# Altium integrated library Xilinx Spartan-3A FPGA.IntLib: 452 symbols (part 2 of 3)
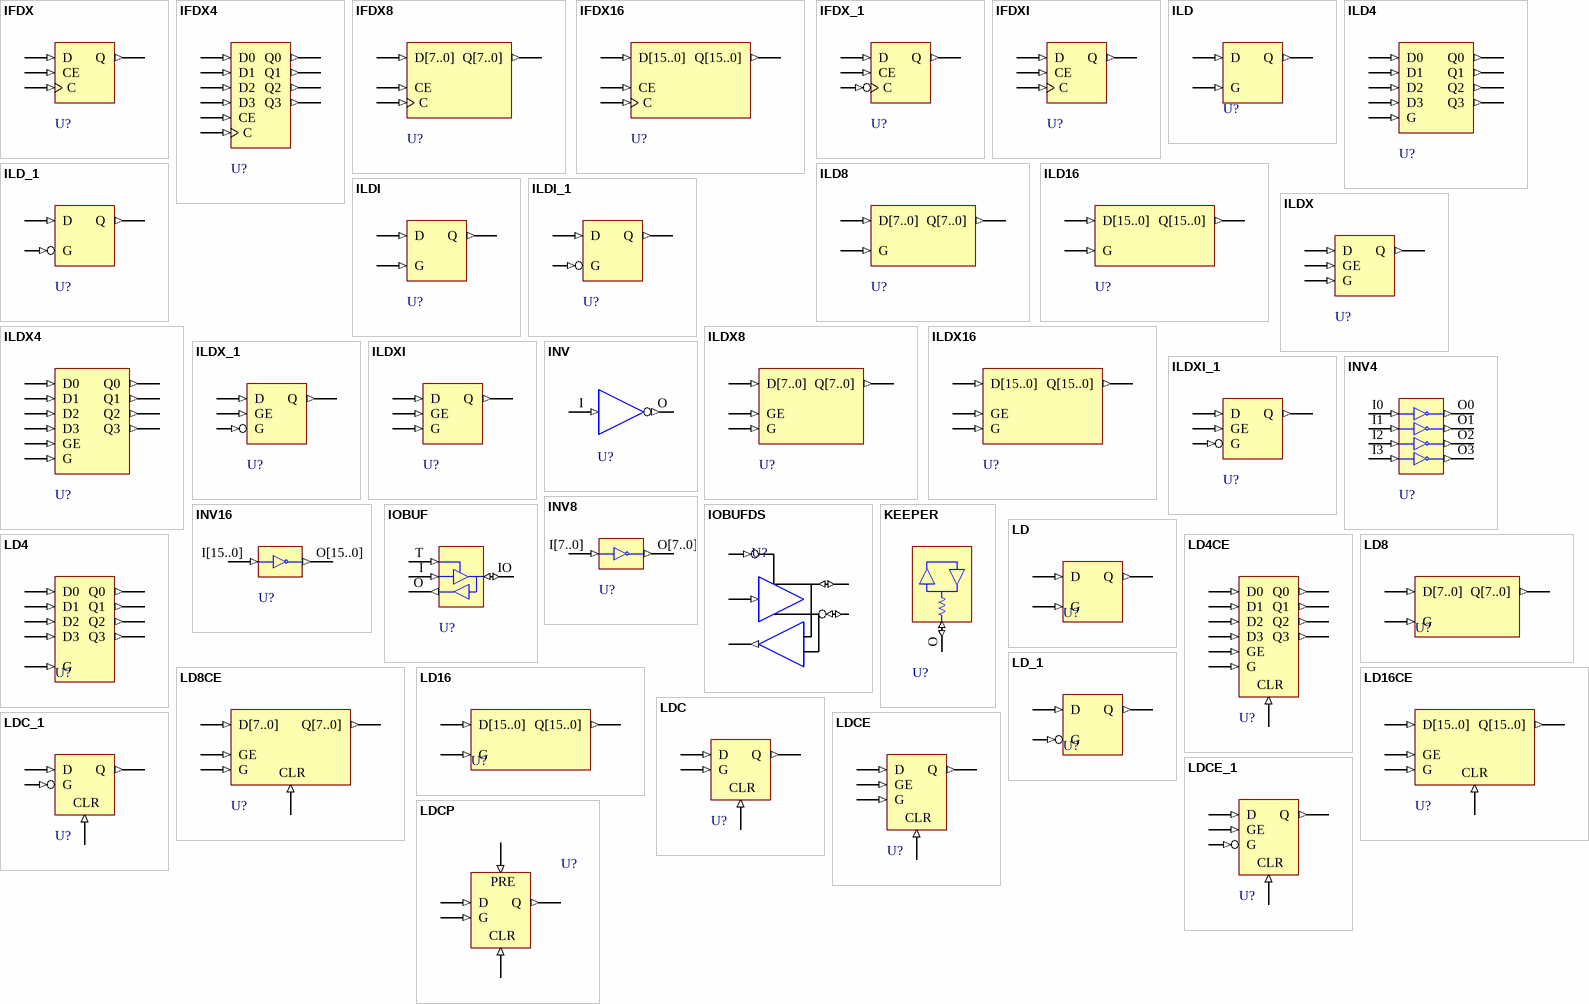
[diagram p12: symbols IFDX to LDCP]

## ILD4
designator U?
Transparent Input Data Latch; FPGAVendor: Xilinx; Published: 12-Jan-2007; Publisher: Altium Limited; HelpURL: http://toolbox.xilinx.com/docsan/xilinx82/books/docs/s3asc/s3asc.pdf
pins: D0 (in), D1 (in), D2 (in), D3 (in), G (in), Q0 (out), Q1 (out), Q2 (out), Q3 (out)

## ILD8
designator U?
Transparent Input Data Latch; FPGAVendor: Xilinx; Published: 12-Jan-2007; Publisher: Altium Limited; HelpURL: http://toolbox.xilinx.com/docsan/xilinx82/books/docs/s3asc/s3asc.pdf
pins: D[7..0] (in), G (in), Q[7..0] (out)

## ILD16
designator U?
Transparent Input Data Latch; FPGAVendor: Xilinx; Published: 12-Jan-2007; Publisher: Altium Limited; HelpURL: http://toolbox.xilinx.com/docsan/xilinx82/books/docs/s3asc/s3asc.pdf
pins: D[15..0] (in), G (in), Q[15..0] (out)

## ILD_1
designator U?
Transparent Input Data Latch with Inverted Gate; FPGAVendor: Xilinx; Published: 12-Jan-2007; Publisher: Altium Limited; HelpURL: http://toolbox.xilinx.com/docsan/xilinx82/books/docs/s3asc/s3asc.pdf
pins: D (in), G (in), Q (out)

## ILDI
designator U?
Transparent Input Data Latch (Asynchronous Preset); FPGAVendor: Xilinx; Published: 12-Jan-2007; Publisher: Altium Limited; HelpURL: http://toolbox.xilinx.com/docsan/xilinx82/books/docs/s3asc/s3asc.pdf
pins: D (in), G (in), Q (out)

## ILDI_1
designator U?
Transparent Input Data Latch with Inverted Gate (Asynchronous Preset); FPGAVendor: Xilinx; Published: 12-Jan-2007; Publisher: Altium Limited; HelpURL: http://toolbox.xilinx.com/docsan/xilinx82/books/docs/s3asc/s3asc.pdf
pins: D (in), G (in), Q (out)

## ILDX
designator U?
Transparent Input Data Latch; FPGAVendor: Xilinx; Published: 12-Jan-2007; Publisher: Altium Limited; HelpURL: http://toolbox.xilinx.com/docsan/xilinx82/books/docs/s3asc/s3asc.pdf
pins: D (in), G (in), GE (in), Q (out)

## ILDX4
designator U?
Transparent Input Data Latch; FPGAVendor: Xilinx; Published: 12-Jan-2007; Publisher: Altium Limited; HelpURL: http://toolbox.xilinx.com/docsan/xilinx82/books/docs/s3asc/s3asc.pdf
pins: D0 (in), D1 (in), D2 (in), D3 (in), G (in), GE (in), Q0 (out), Q1 (out), Q2 (out), Q3 (out)

## ILDX8
designator U?
Transparent Input Data Latch; FPGAVendor: Xilinx; Published: 12-Jan-2007; Publisher: Altium Limited; HelpURL: http://toolbox.xilinx.com/docsan/xilinx82/books/docs/s3asc/s3asc.pdf
pins: D[7..0] (in), G (in), GE (in), Q[7..0] (out)

## ILDX16
designator U?
Transparent Input Data Latch; FPGAVendor: Xilinx; Published: 12-Jan-2007; Publisher: Altium Limited; HelpURL: http://toolbox.xilinx.com/docsan/xilinx82/books/docs/s3asc/s3asc.pdf
pins: D[15..0] (in), G (in), GE (in), Q[15..0] (out)

## ILDX_1
designator U?
Transparent Input Data Latch with Inverted Gate; FPGAVendor: Xilinx; Published: 12-Jan-2007; Publisher: Altium Limited; HelpURL: http://toolbox.xilinx.com/docsan/xilinx82/books/docs/s3asc/s3asc.pdf
pins: D (in), G (in), GE (in), Q (out)

## ILDXI
designator U?
Transparent Input Data Latch (Asynchronous Preset); FPGAVendor: Xilinx; Published: 12-Jan-2007; Publisher: Altium Limited; HelpURL: http://toolbox.xilinx.com/docsan/xilinx82/books/docs/s3asc/s3asc.pdf
pins: D (in), G (in), GE (in), Q (out)

## ILDXI_1
designator U?
Transparent Input Data Latch with Inverted Gate (Asynchronous Preset); FPGAVendor: Xilinx; Published: 12-Jan-2007; Publisher: Altium Limited; HelpURL: http://toolbox.xilinx.com/docsan/xilinx82/books/docs/s3asc/s3asc.pdf
pins: D (in), G (in), GE (in), Q (out)

## INV
designator U?
Inverter; FPGAVendor: Xilinx; Published: 12-Jan-2007; Publisher: Altium Limited; HelpURL: http://toolbox.xilinx.com/docsan/xilinx82/books/docs/s3asc/s3asc.pdf
pins: I (in), O (out)

## INV4
designator U?
4 x Inverters; FPGAVendor: Xilinx; Published: 12-Jan-2007; Publisher: Altium Limited; HelpURL: http://toolbox.xilinx.com/docsan/xilinx82/books/docs/s3asc/s3asc.pdf
pins: I0 (in), I1 (in), I2 (in), I3 (in), O0 (out), O1 (out), O2 (out), O3 (out)

## INV8
designator U?
8 x Inverters; FPGAVendor: Xilinx; Published: 12-Jan-2007; Publisher: Altium Limited; HelpURL: http://toolbox.xilinx.com/docsan/xilinx82/books/docs/s3asc/s3asc.pdf
pins: I[7..0] (in), O[7..0] (out)

## INV16
designator U?
16 x Inverters; FPGAVendor: Xilinx; Published: 12-Jan-2007; Publisher: Altium Limited; HelpURL: http://toolbox.xilinx.com/docsan/xilinx82/books/docs/s3asc/s3asc.pdf
pins: I[15..0] (in), O[15..0] (out)

## IOBUF
designator U?
Bi-Directional Buffer using the LVTTL standard; FPGAVendor: Xilinx; Published: 12-Jan-2007; Publisher: Altium Limited; HelpURL: http://toolbox.xilinx.com/docsan/xilinx82/books/docs/s3asc/s3asc.pdf
pins: I (in), IO (io), O (out), T (in)

## IOBUFDS
designator U?
3-State Differential Signaling I/O Buffer with Active Low Output Enable; FPGAVendor: Xilinx; Published: 12-Jan-2007; Publisher: Altium Limited; HelpURL: http://toolbox.xilinx.com/docsan/xilinx82/books/docs/s3asc/s3asc.pdf
pins: I (in), IO (io), IOB (io), O (out), T (in)

## KEEPER
designator U?
KEEPER Symbol; FPGAVendor: Xilinx; Published: 12-Jan-2007; Publisher: Altium Limited; HelpURL: http://toolbox.xilinx.com/docsan/xilinx82/books/docs/s3asc/s3asc.pdf
pins: O (io)

## LD
designator U?
Transparent Data Latch; FPGAVendor: Xilinx; Published: 12-Jan-2007; Publisher: Altium Limited; HelpURL: http://toolbox.xilinx.com/docsan/xilinx82/books/docs/s3asc/s3asc.pdf
pins: D (in), G (in), Q (out)

## LD4
designator U?
Multiple Transparent Data Latches; FPGAVendor: Xilinx; Published: 12-Jan-2007; Publisher: Altium Limited; HelpURL: http://toolbox.xilinx.com/docsan/xilinx82/books/docs/s3asc/s3asc.pdf
pins: D0 (in), D1 (in), D2 (in), D3 (in), G (in), Q0 (out), Q1 (out), Q2 (out), Q3 (out)

## LD4CE
designator U?
Transparent Data Latch with Asynchronous Clear and Gate Enable; FPGAVendor: Xilinx; Published: 12-Jan-2007; Publisher: Altium Limited; HelpURL: http://toolbox.xilinx.com/docsan/xilinx82/books/docs/s3asc/s3asc.pdf
pins: CLR (in), D0 (in), D1 (in), D2 (in), D3 (in), G (in), GE (in), Q0 (out), Q1 (out), Q2 (out), Q3 (out)

## LD8
designator U?
Multiple Transparent Data Latches; FPGAVendor: Xilinx; Published: 12-Jan-2007; Publisher: Altium Limited; HelpURL: http://toolbox.xilinx.com/docsan/xilinx82/books/docs/s3asc/s3asc.pdf
pins: D[7..0] (in), G (in), Q[7..0] (out)

## LD8CE
designator U?
Transparent Data Latch with Asynchronous Clear and Gate Enable; FPGAVendor: Xilinx; Published: 12-Jan-2007; Publisher: Altium Limited; HelpURL: http://toolbox.xilinx.com/docsan/xilinx82/books/docs/s3asc/s3asc.pdf
pins: CLR (in), D[7..0] (in), G (in), GE (in), Q[7..0] (out)

## LD16
designator U?
Multiple Transparent Data Latches; FPGAVendor: Xilinx; Published: 12-Jan-2007; Publisher: Altium Limited; HelpURL: http://toolbox.xilinx.com/docsan/xilinx82/books/docs/s3asc/s3asc.pdf
pins: D[15..0] (in), G (in), Q[15..0] (out)

## LD16CE
designator U?
Transparent Data Latch with Asynchronous Clear and Gate Enable; FPGAVendor: Xilinx; Published: 12-Jan-2007; Publisher: Altium Limited; HelpURL: http://toolbox.xilinx.com/docsan/xilinx82/books/docs/s3asc/s3asc.pdf
pins: CLR (in), D[15..0] (in), G (in), GE (in), Q[15..0] (out)

## LD_1
designator U?
Transparent Data Latch with Inverted Gate; FPGAVendor: Xilinx; Published: 12-Jan-2007; Publisher: Altium Limited; HelpURL: http://toolbox.xilinx.com/docsan/xilinx82/books/docs/s3asc/s3asc.pdf
pins: D (in), G (in), Q (out)

## LDC
designator U?
Transparent Data Latch with Asynchronous Clear; FPGAVendor: Xilinx; Published: 12-Jan-2007; Publisher: Altium Limited; HelpURL: http://toolbox.xilinx.com/docsan/xilinx82/books/docs/s3asc/s3asc.pdf
pins: CLR (in), D (in), G (in), Q (out)

## LDC_1
designator U?
Transparent Data Latch with Asynchronous Clear and Inverted Gate; FPGAVendor: Xilinx; Published: 12-Jan-2007; Publisher: Altium Limited; HelpURL: http://toolbox.xilinx.com/docsan/xilinx82/books/docs/s3asc/s3asc.pdf
pins: CLR (in), D (in), G (in), Q (out)

## LDCE
designator U?
Transparent Data Latch wth Asynchronous Clear and Gate Enable; FPGAVendor: Xilinx; Published: 12-Jan-2007; Publisher: Altium Limited; HelpURL: http://toolbox.xilinx.com/docsan/xilinx82/books/docs/s3asc/s3asc.pdf
pins: CLR (in), D (in), G (in), GE (in), Q (out)

## LDCE_1
designator U?
Transparent Data Latch with Asynchronous Clear, Gate Enable,  and Inverted Gate; FPGAVendor: Xilinx; Published: 12-Jan-2007; Publisher: Altium Limited; HelpURL: http://toolbox.xilinx.com/docsan/xilinx82/books/docs/s3asc/s3asc.pdf
pins: CLR (in), D (in), G (in), GE (in), Q (out)

## LDCP
designator U?
Transparent Data Latch with Asynchronous Clear and Preset; FPGAVendor: Xilinx; Published: 12-Jan-2007; Publisher: Altium Limited; HelpURL: http://toolbox.xilinx.com/docsan/xilinx82/books/docs/s3asc/s3asc.pdf
pins: CLR (in), D (in), G (in), PRE (in), Q (out)

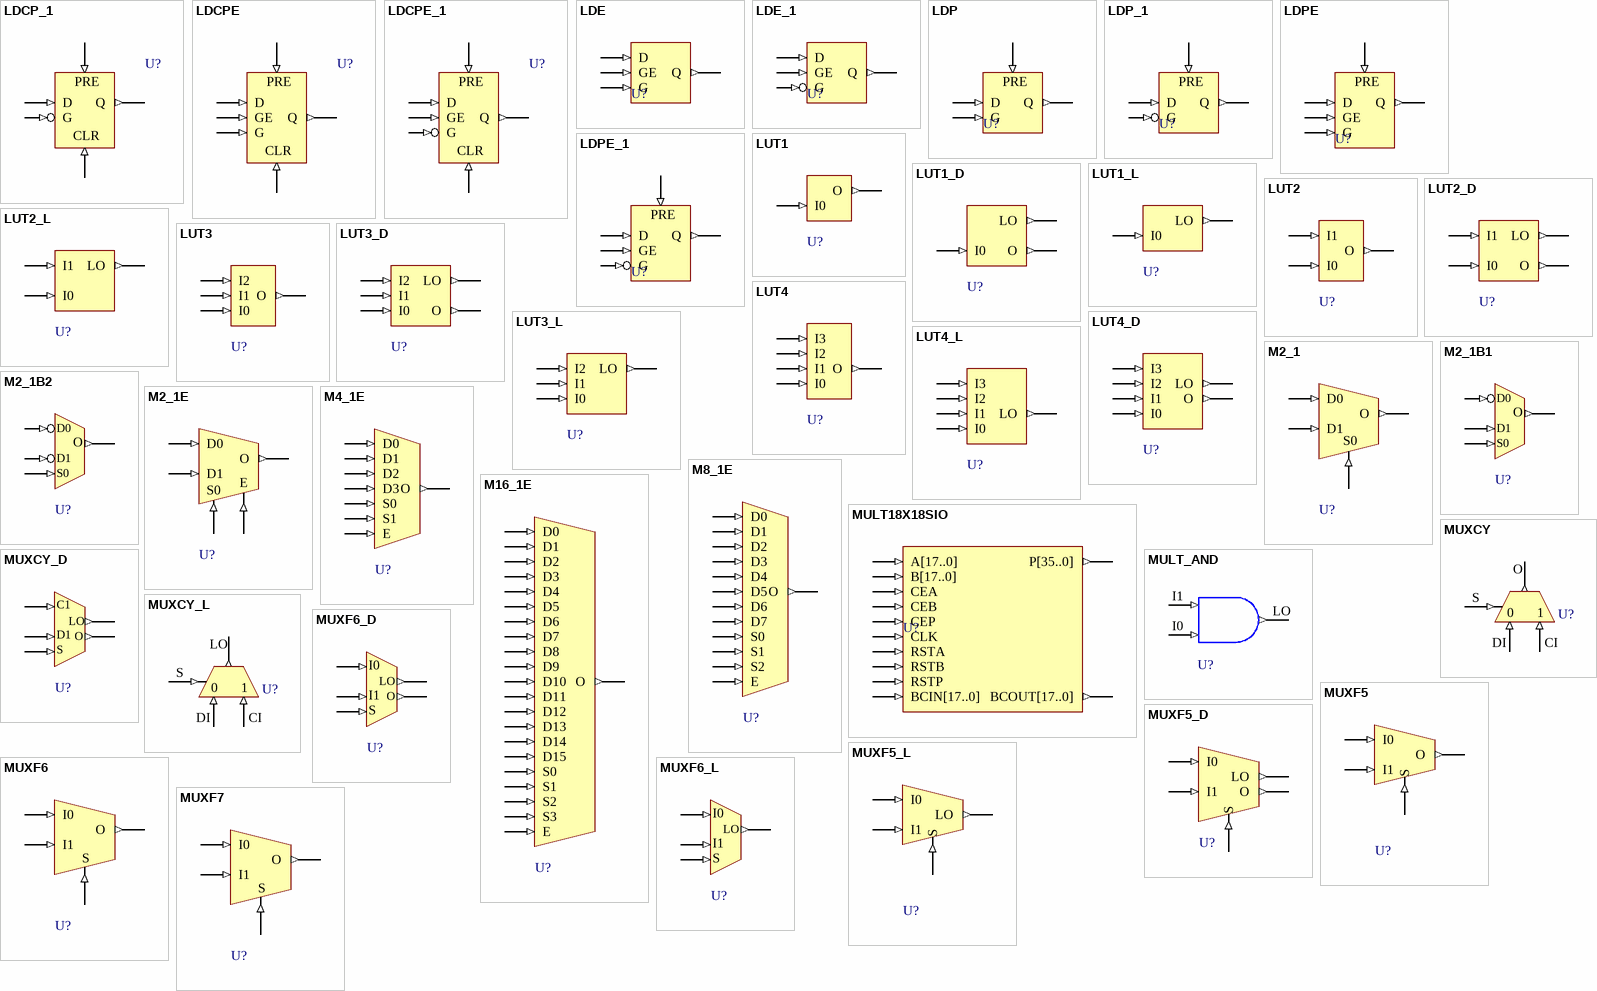
[diagram p5: symbols LDCP_1 to MUXF7]

## LDCP_1
designator U?
Transparent Data Latch with Asynchronous Clear and Preset and Inverted Gate; FPGAVendor: Xilinx; Published: 12-Jan-2007; Publisher: Altium Limited; HelpURL: http://toolbox.xilinx.com/docsan/xilinx82/books/docs/s3asc/s3asc.pdf
pins: CLR (in), D (in), G (in), PRE (in), Q (out)

## LDCPE
designator U?
Transparent Data Latch with Asynchronous Clear and Preset and Gate Enable; FPGAVendor: Xilinx; Published: 12-Jan-2007; Publisher: Altium Limited; HelpURL: http://toolbox.xilinx.com/docsan/xilinx82/books/docs/s3asc/s3asc.pdf
pins: CLR (in), D (in), G (in), GE (in), PRE (in), Q (out)

## LDCPE_1
designator U?
Transparent Data Latch with Asynchronous Clear and Preset, Gate Enable, and Inverted Gate; FPGAVendor: Xilinx; Published: 12-Jan-2007; Publisher: Altium Limited; HelpURL: http://toolbox.xilinx.com/docsan/xilinx82/books/docs/s3asc/s3asc.pdf
pins: CLR (in), D (in), G (in), GE (in), PRE (in), Q (out)

## LDE
designator U?
Transparent Data Latch with Gate Enable; FPGAVendor: Xilinx; Published: 12-Jan-2007; Publisher: Altium Limited; HelpURL: http://toolbox.xilinx.com/docsan/xilinx82/books/docs/s3asc/s3asc.pdf
pins: D (in), G (in), GE (in), Q (out)

## LDE_1
designator U?
Transparent Data Latch with Gate Enable and Inverted Gate; FPGAVendor: Xilinx; Published: 12-Jan-2007; Publisher: Altium Limited; HelpURL: http://toolbox.xilinx.com/docsan/xilinx82/books/docs/s3asc/s3asc.pdf
pins: D (in), G (in), GE (in), Q (out)

## LDP
designator U?
Transparent Data Latch with Asynchronous Preset; FPGAVendor: Xilinx; Published: 12-Jan-2007; Publisher: Altium Limited; HelpURL: http://toolbox.xilinx.com/docsan/xilinx82/books/docs/s3asc/s3asc.pdf
pins: D (in), G (in), PRE (in), Q (out)

## LDP_1
designator U?
Transparent Data Latch with Asynchronous Preset and Inverted Gate; FPGAVendor: Xilinx; Published: 12-Jan-2007; Publisher: Altium Limited; HelpURL: http://toolbox.xilinx.com/docsan/xilinx82/books/docs/s3asc/s3asc.pdf
pins: D (in), G (in), PRE (in), Q (out)

## LDPE
designator U?
Transparent Data Latch with Asynchronous Preset and Gate Enable; FPGAVendor: Xilinx; Published: 12-Jan-2007; Publisher: Altium Limited; HelpURL: http://toolbox.xilinx.com/docsan/xilinx82/books/docs/s3asc/s3asc.pdf
pins: D (in), G (in), GE (in), PRE (in), Q (out)

## LDPE_1
designator U?
Transparent Data Latch with Asynchronous Preset, Gate Enable, and Inverted Gate; FPGAVendor: Xilinx; Published: 12-Jan-2007; Publisher: Altium Limited; HelpURL: http://toolbox.xilinx.com/docsan/xilinx82/books/docs/s3asc/s3asc.pdf
pins: D (in), G (in), GE (in), PRE (in), Q (out)

## LUT1
designator U?
1-Bit Look-Up-Table with General Output; FPGAVendor: Xilinx; Published: 12-Jan-2007; Publisher: Altium Limited; HelpURL: http://toolbox.xilinx.com/docsan/xilinx82/books/docs/s3asc/s3asc.pdf
pins: I0 (in), O (out)

## LUT1_D
designator U?
1-Bit Look-Up-Table with Dual Output; FPGAVendor: Xilinx; Published: 12-Jan-2007; Publisher: Altium Limited; HelpURL: http://toolbox.xilinx.com/docsan/xilinx82/books/docs/s3asc/s3asc.pdf
pins: I0 (in), LO (out), O (out)

## LUT1_L
designator U?
1-Bit Look-Up-Table with Local Output; FPGAVendor: Xilinx; Published: 12-Jan-2007; Publisher: Altium Limited; HelpURL: http://toolbox.xilinx.com/docsan/xilinx82/books/docs/s3asc/s3asc.pdf
pins: I0 (in), LO (out)

## LUT2
designator U?
2-Bit Look-Up-Table with General Output; FPGAVendor: Xilinx; Published: 12-Jan-2007; Publisher: Altium Limited; HelpURL: http://toolbox.xilinx.com/docsan/xilinx82/books/docs/s3asc/s3asc.pdf
pins: I0 (in), I1 (in), O (out)

## LUT2_D
designator U?
2-Bit Look-Up-Table with Dual Output; FPGAVendor: Xilinx; Published: 12-Jan-2007; Publisher: Altium Limited; HelpURL: http://toolbox.xilinx.com/docsan/xilinx82/books/docs/s3asc/s3asc.pdf
pins: I0 (in), I1 (in), LO (out), O (out)

## LUT2_L
designator U?
2-Bit Look-Up-Table with Local Output; FPGAVendor: Xilinx; Published: 12-Jan-2007; Publisher: Altium Limited; HelpURL: http://toolbox.xilinx.com/docsan/xilinx82/books/docs/s3asc/s3asc.pdf
pins: I0 (in), I1 (in), LO (out)

## LUT3
designator U?
3-Bit Look-Up-Table with General Output; FPGAVendor: Xilinx; Published: 12-Jan-2007; Publisher: Altium Limited; HelpURL: http://toolbox.xilinx.com/docsan/xilinx82/books/docs/s3asc/s3asc.pdf
pins: I0 (in), I1 (in), I2 (in), O (out)

## LUT3_D
designator U?
3-Bit Look-Up-Table with Dual Output; FPGAVendor: Xilinx; Published: 12-Jan-2007; Publisher: Altium Limited; HelpURL: http://toolbox.xilinx.com/docsan/xilinx82/books/docs/s3asc/s3asc.pdf
pins: I0 (in), I1 (in), I2 (in), LO (out), O (out)

## LUT3_L
designator U?
3-Bit Look-Up-Table with Local Output; FPGAVendor: Xilinx; Published: 12-Jan-2007; Publisher: Altium Limited; HelpURL: http://toolbox.xilinx.com/docsan/xilinx82/books/docs/s3asc/s3asc.pdf
pins: I0 (in), I1 (in), I2 (in), LO (out)

## LUT4
designator U?
4-Bit Look-Up-Table with General Output; FPGAVendor: Xilinx; Published: 12-Jan-2007; Publisher: Altium Limited; HelpURL: http://toolbox.xilinx.com/docsan/xilinx82/books/docs/s3asc/s3asc.pdf
pins: I0 (in), I1 (in), I2 (in), I3 (in), O (out)

## LUT4_D
designator U?
4-Bit Look-Up-Table with Dual Output; FPGAVendor: Xilinx; Published: 12-Jan-2007; Publisher: Altium Limited; HelpURL: http://toolbox.xilinx.com/docsan/xilinx82/books/docs/s3asc/s3asc.pdf
pins: I0 (in), I1 (in), I2 (in), I3 (in), LO (out), O (out)

## LUT4_L
designator U?
4-Bit Look-Up-Table with Local Output; FPGAVendor: Xilinx; Published: 12-Jan-2007; Publisher: Altium Limited; HelpURL: http://toolbox.xilinx.com/docsan/xilinx82/books/docs/s3asc/s3asc.pdf
pins: I0 (in), I1 (in), I2 (in), I3 (in), LO (out)

## M2_1
designator U?
2-to-1 Multiplexer; FPGAVendor: Xilinx; Published: 12-Jan-2007; Publisher: Altium Limited; HelpURL: http://toolbox.xilinx.com/docsan/xilinx82/books/docs/s3asc/s3asc.pdf
pins: D0 (in), D1 (in), O (out), S0 (in)

## M2_1B1
designator U?
2-to-1 Multiplexer with D0 Inverted; FPGAVendor: Xilinx; Published: 12-Jan-2007; Publisher: Altium Limited; HelpURL: http://toolbox.xilinx.com/docsan/xilinx82/books/docs/s3asc/s3asc.pdf
pins: D0 (in), D1 (in), O (out), S0 (in)

## M2_1B2
designator U?
2-to-1 Multiplexer with D0 and D1 Inverted; FPGAVendor: Xilinx; Published: 12-Jan-2007; Publisher: Altium Limited; HelpURL: http://toolbox.xilinx.com/docsan/xilinx82/books/docs/s3asc/s3asc.pdf
pins: D0 (in), D1 (in), O (out), S0 (in)

## M2_1E
designator U?
2-to-1 Multiplexer with Enable; FPGAVendor: Xilinx; Published: 12-Jan-2007; Publisher: Altium Limited; HelpURL: http://toolbox.xilinx.com/docsan/xilinx82/books/docs/s3asc/s3asc.pdf
pins: D0 (in), D1 (in), E (in), O (out), S0 (in)

## M4_1E
designator U?
4-to-1 Multiplexer with Enable; FPGAVendor: Xilinx; Published: 12-Jan-2007; Publisher: Altium Limited; HelpURL: http://toolbox.xilinx.com/docsan/xilinx82/books/docs/s3asc/s3asc.pdf
pins: D0 (in), D1 (in), D2 (in), D3 (in), E (in), O (out), S0 (in), S1 (in)

## M8_1E
designator U?
8-to-1 Multiplexer with Enable; FPGAVendor: Xilinx; Published: 12-Jan-2007; Publisher: Altium Limited; HelpURL: http://toolbox.xilinx.com/docsan/xilinx82/books/docs/s3asc/s3asc.pdf
pins: D0 (in), D1 (in), D2 (in), D3 (in), D4 (in), D5 (in), D6 (in), D7 (in), E (in), O (out), S0 (in), S1 (in), S2 (in)

## M16_1E
designator U?
16-to-1 Multiplexer with Enable; FPGAVendor: Xilinx; Published: 12-Jan-2007; Publisher: Altium Limited; HelpURL: http://toolbox.xilinx.com/docsan/xilinx82/books/docs/s3asc/s3asc.pdf
pins: D0 (in), D1 (in), D2 (in), D3 (in), D4 (in), D5 (in), D6 (in), D7 (in), D8 (in), D9 (in), D10 (in), D11 (in), D12 (in), D13 (in), D14 (in), D15 (in), E (in), O (out), S0 (in), S1 (in), S2 (in), S3 (in)

## MULT18X18SIO
designator U?
18x18 Cascadable Signed Multiplier with Optional Input and Output registers, Clock Enable, and Synchronous Reset; FPGAVendor: Xilinx; Published: 12-Jan-2007; Publisher: Altium Limited; HelpURL: http://toolbox.xilinx.com/docsan/xilinx82/books/docs/s3asc/s3asc.pdf
pins: A[17..0] (in), B[17..0] (in), BCIN[17..0] (in), BCOUT[17..0] (out), CEA (in), CEB (in), CEP (in), CLK (in), P[35..0] (out), RSTA (in), RSTB (in), RSTP (in)

## MULT_AND
designator U?
Fast Multiplier AND; FPGAVendor: Xilinx; Published: 12-Jan-2007; Publisher: Altium Limited; HelpURL: http://toolbox.xilinx.com/docsan/xilinx82/books/docs/s3asc/s3asc.pdf
pins: I0 (in), I1 (in), LO (out)

## MUXCY
designator U?
2-to-1 Multiplexer for Carry Logic with General Output; FPGAVendor: Xilinx; Published: 12-Jan-2007; Publisher: Altium Limited; HelpURL: http://toolbox.xilinx.com/docsan/xilinx82/books/docs/s3asc/s3asc.pdf
pins: CI (in), DI (in), O (out), S (in)
text: 0; 1

## MUXCY_D
designator U?
2-to-1 Multiplexer for Carry Logic with Dual Output; FPGAVendor: Xilinx; Published: 12-Jan-2007; Publisher: Altium Limited; HelpURL: http://toolbox.xilinx.com/docsan/xilinx82/books/docs/s3asc/s3asc.pdf
pins: CI (in), DI (in), LO (out), O (out), S (in)
text: C1; D1

## MUXCY_L
designator U?
2-to-1 Multiplexer for Carry Logic with Local Output; FPGAVendor: Xilinx; Published: 12-Jan-2007; Publisher: Altium Limited; HelpURL: http://toolbox.xilinx.com/docsan/xilinx82/books/docs/s3asc/s3asc.pdf
pins: CI (in), DI (in), LO (out), S (in)
text: 0; 1

## MUXF5
designator U?
2-to-1 Lookup Table Multiplexer with General Output; FPGAVendor: Xilinx; Published: 12-Jan-2007; Publisher: Altium Limited; HelpURL: http://toolbox.xilinx.com/docsan/xilinx82/books/docs/s3asc/s3asc.pdf
pins: I0 (in), I1 (in), O (out), S (in)

## MUXF5_D
designator U?
2-to-1 Lookup Table Multiplexer with Dual Output; FPGAVendor: Xilinx; Published: 12-Jan-2007; Publisher: Altium Limited; HelpURL: http://toolbox.xilinx.com/docsan/xilinx82/books/docs/s3asc/s3asc.pdf
pins: I0 (in), I1 (in), LO (out), O (out), S (in)

## MUXF5_L
designator U?
2-to-1 Lookup Table Multiplexer with Local Output; FPGAVendor: Xilinx; Published: 12-Jan-2007; Publisher: Altium Limited; HelpURL: http://toolbox.xilinx.com/docsan/xilinx82/books/docs/s3asc/s3asc.pdf
pins: I0 (in), I1 (in), LO (out), S (in)

## MUXF6
designator U?
2-to-1 Lookup Table Multiplexer with General Output; FPGAVendor: Xilinx; Published: 12-Jan-2007; Publisher: Altium Limited; HelpURL: http://toolbox.xilinx.com/docsan/xilinx82/books/docs/s3asc/s3asc.pdf
pins: I0 (in), I1 (in), O (out), S (in)

## MUXF6_D
designator U?
2-to-1 Lookup Table Multiplexer with Dual Output; FPGAVendor: Xilinx; Published: 12-Jan-2007; Publisher: Altium Limited; HelpURL: http://toolbox.xilinx.com/docsan/xilinx82/books/docs/s3asc/s3asc.pdf
pins: I0 (in), I1 (in), LO (out), O (out), S (in)

## MUXF6_L
designator U?
2-to-1 Lookup Table Multiplexer with Local Output; FPGAVendor: Xilinx; Published: 12-Jan-2007; Publisher: Altium Limited; HelpURL: http://toolbox.xilinx.com/docsan/xilinx82/books/docs/s3asc/s3asc.pdf
pins: I0 (in), I1 (in), LO (out), S (in)

## MUXF7
designator U?
2-to-1 Lookup Table Multiplexer with General Output; FPGAVendor: Xilinx; Published: 12-Jan-2007; Publisher: Altium Limited; HelpURL: http://toolbox.xilinx.com/docsan/xilinx82/books/docs/s3asc/s3asc.pdf
pins: I0 (in), I1 (in), O (out), S (in)

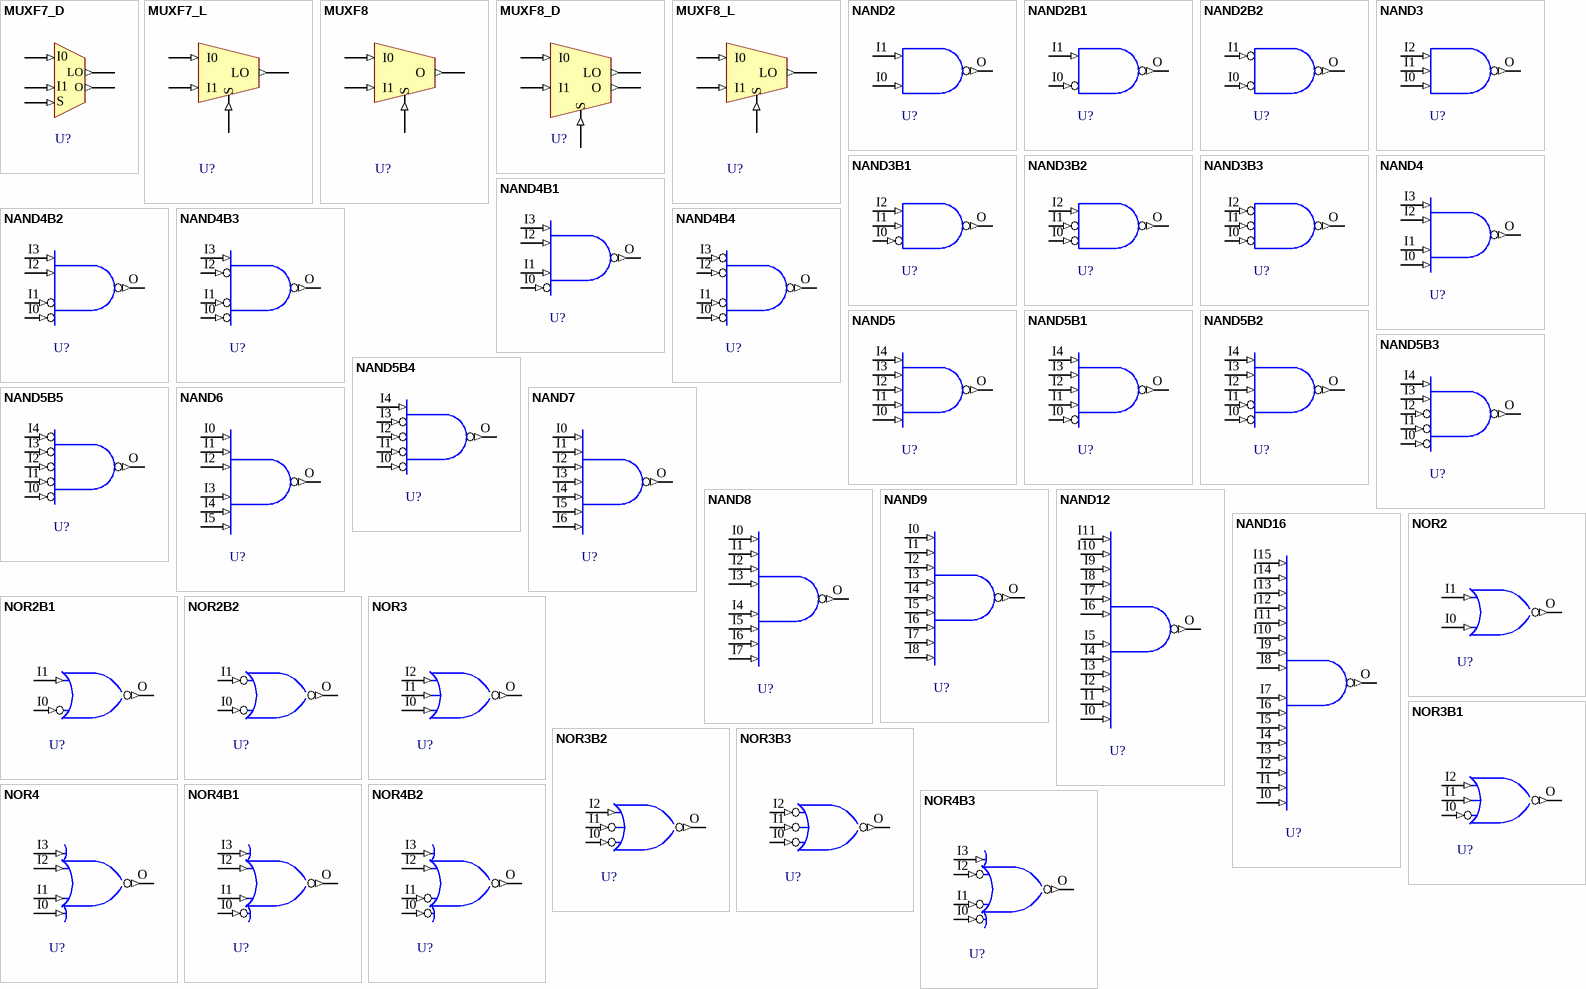
[diagram p6: symbols MUXF7_D to NOR4B3]

## MUXF7_D
designator U?
2-to-1 Lookup Table Multiplexer with General Output; FPGAVendor: Xilinx; Published: 12-Jan-2007; Publisher: Altium Limited; HelpURL: http://toolbox.xilinx.com/docsan/xilinx82/books/docs/s3asc/s3asc.pdf
pins: I0 (in), I1 (in), LO (out), O (out), S (in)

## MUXF7_L
designator U?
2-to-1 Lookup Table Multiplexer with Local Output; FPGAVendor: Xilinx; Published: 12-Jan-2007; Publisher: Altium Limited; HelpURL: http://toolbox.xilinx.com/docsan/xilinx82/books/docs/s3asc/s3asc.pdf
pins: I0 (in), I1 (in), LO (out), S (in)

## MUXF8
designator U?
2-to-1 Lookup Table Multiplexer with General Output; FPGAVendor: Xilinx; Published: 12-Jan-2007; Publisher: Altium Limited; HelpURL: http://toolbox.xilinx.com/docsan/xilinx82/books/docs/s3asc/s3asc.pdf
pins: I0 (in), I1 (in), O (out), S (in)

## MUXF8_D
designator U?
2-to-1 Lookup Table Multiplexer with Dual Output; FPGAVendor: Xilinx; Published: 12-Jan-2007; Publisher: Altium Limited; HelpURL: http://toolbox.xilinx.com/docsan/xilinx82/books/docs/s3asc/s3asc.pdf
pins: I0 (in), I1 (in), LO (out), O (out), S (in)

## MUXF8_L
designator U?
2-to-1 Lookup Table Multiplexer with Local Output; FPGAVendor: Xilinx; Published: 12-Jan-2007; Publisher: Altium Limited; HelpURL: http://toolbox.xilinx.com/docsan/xilinx82/books/docs/s3asc/s3asc.pdf
pins: I0 (in), I1 (in), LO (out), S (in)

## NAND2
designator U?
2-Input NAND Gate; FPGAVendor: Xilinx; Published: 12-Jan-2007; Publisher: Altium Limited; HelpURL: http://toolbox.xilinx.com/docsan/xilinx82/books/docs/s3asc/s3asc.pdf
pins: I0 (in), I1 (in), O (out)

## NAND2B1
designator U?
2-Input NAND Gate with One Inverted Input; FPGAVendor: Xilinx; Published: 12-Jan-2007; Publisher: Altium Limited; HelpURL: http://toolbox.xilinx.com/docsan/xilinx82/books/docs/s3asc/s3asc.pdf
pins: I0 (in), I1 (in), O (out)

## NAND2B2
designator U?
2-Input NAND Gate with Two Inverted Inputs; FPGAVendor: Xilinx; Published: 12-Jan-2007; Publisher: Altium Limited; HelpURL: http://toolbox.xilinx.com/docsan/xilinx82/books/docs/s3asc/s3asc.pdf
pins: I0 (in), I1 (in), O (out)

## NAND3
designator U?
3-Input NAND Gate; FPGAVendor: Xilinx; Published: 12-Jan-2007; Publisher: Altium Limited; HelpURL: http://toolbox.xilinx.com/docsan/xilinx82/books/docs/s3asc/s3asc.pdf
pins: I0 (in), I1 (in), I2 (in), O (out)

## NAND3B1
designator U?
3-Input NAND Gate with One Inverted Input; FPGAVendor: Xilinx; Published: 12-Jan-2007; Publisher: Altium Limited; HelpURL: http://toolbox.xilinx.com/docsan/xilinx82/books/docs/s3asc/s3asc.pdf
pins: I0 (in), I1 (in), I2 (in), O (out)

## NAND3B2
designator U?
3-Input NAND Gate with Two Inverted Inputs; FPGAVendor: Xilinx; Published: 12-Jan-2007; Publisher: Altium Limited; HelpURL: http://toolbox.xilinx.com/docsan/xilinx82/books/docs/s3asc/s3asc.pdf
pins: I0 (in), I1 (in), I2 (in), O (out)

## NAND3B3
designator U?
3-Input NAND Gate with Three Inverted Inputs; FPGAVendor: Xilinx; Published: 12-Jan-2007; Publisher: Altium Limited; HelpURL: http://toolbox.xilinx.com/docsan/xilinx82/books/docs/s3asc/s3asc.pdf
pins: I0 (in), I1 (in), I2 (in), O (out)

## NAND4
designator U?
4-Input NAND Gate; FPGAVendor: Xilinx; Published: 12-Jan-2007; Publisher: Altium Limited; HelpURL: http://toolbox.xilinx.com/docsan/xilinx82/books/docs/s3asc/s3asc.pdf
pins: I0 (in), I1 (in), I2 (in), I3 (in), O (out)

## NAND4B1
designator U?
4-Input NAND Gate with One Inverted Input; FPGAVendor: Xilinx; Published: 12-Jan-2007; Publisher: Altium Limited; HelpURL: http://toolbox.xilinx.com/docsan/xilinx82/books/docs/s3asc/s3asc.pdf
pins: I0 (in), I1 (in), I2 (in), I3 (in), O (out)

## NAND4B2
designator U?
4-Input NAND Gate with Two Inverted Inputs; FPGAVendor: Xilinx; Published: 12-Jan-2007; Publisher: Altium Limited; HelpURL: http://toolbox.xilinx.com/docsan/xilinx82/books/docs/s3asc/s3asc.pdf
pins: I0 (in), I1 (in), I2 (in), I3 (in), O (out)

## NAND4B3
designator U?
4-Input NAND Gate with Three Inverted Inputs; FPGAVendor: Xilinx; Published: 12-Jan-2007; Publisher: Altium Limited; HelpURL: http://toolbox.xilinx.com/docsan/xilinx82/books/docs/s3asc/s3asc.pdf
pins: I0 (in), I1 (in), I2 (in), I3 (in), O (out)

## NAND4B4
designator U?
4-Input NAND Gate with Four Inverted Inputs; FPGAVendor: Xilinx; Published: 12-Jan-2007; Publisher: Altium Limited; HelpURL: http://toolbox.xilinx.com/docsan/xilinx82/books/docs/s3asc/s3asc.pdf
pins: I0 (in), I1 (in), I2 (in), I3 (in), O (out)

## NAND5
designator U?
5-Input NAND Gate; FPGAVendor: Xilinx; Published: 12-Jan-2007; Publisher: Altium Limited; HelpURL: http://toolbox.xilinx.com/docsan/xilinx82/books/docs/s3asc/s3asc.pdf
pins: I0 (in), I1 (in), I2 (in), I3 (in), I4 (in), O (out)

## NAND5B1
designator U?
5-Input NAND Gate with One Inverted Input; FPGAVendor: Xilinx; Published: 12-Jan-2007; Publisher: Altium Limited; HelpURL: http://toolbox.xilinx.com/docsan/xilinx82/books/docs/s3asc/s3asc.pdf
pins: I0 (in), I1 (in), I2 (in), I3 (in), I4 (in), O (out)

## NAND5B2
designator U?
5-Input NAND Gate with Two Inverted Inputs; FPGAVendor: Xilinx; Published: 12-Jan-2007; Publisher: Altium Limited; HelpURL: http://toolbox.xilinx.com/docsan/xilinx82/books/docs/s3asc/s3asc.pdf
pins: I0 (in), I1 (in), I2 (in), I3 (in), I4 (in), O (out)

## NAND5B3
designator U?
5-Input NAND Gate with Three Inverted Inputs; FPGAVendor: Xilinx; Published: 12-Jan-2007; Publisher: Altium Limited; HelpURL: http://toolbox.xilinx.com/docsan/xilinx82/books/docs/s3asc/s3asc.pdf
pins: I0 (in), I1 (in), I2 (in), I3 (in), I4 (in), O (out)

## NAND5B4
designator U?
5-Input NAND Gate with Four Inverted Inputs; FPGAVendor: Xilinx; Published: 12-Jan-2007; Publisher: Altium Limited; HelpURL: http://toolbox.xilinx.com/docsan/xilinx82/books/docs/s3asc/s3asc.pdf
pins: I0 (in), I1 (in), I2 (in), I3 (in), I4 (in), O (out)

## NAND5B5
designator U?
5-Input NAND Gate with Five Inverted Inputs; FPGAVendor: Xilinx; Published: 12-Jan-2007; Publisher: Altium Limited; HelpURL: http://toolbox.xilinx.com/docsan/xilinx82/books/docs/s3asc/s3asc.pdf
pins: I0 (in), I1 (in), I2 (in), I3 (in), I4 (in), O (out)

## NAND6
designator U?
6-Input NAND Gate; FPGAVendor: Xilinx; Published: 12-Jan-2007; Publisher: Altium Limited; HelpURL: http://toolbox.xilinx.com/docsan/xilinx82/books/docs/s3asc/s3asc.pdf
pins: I0 (in), I1 (in), I2 (in), I3 (in), I4 (in), I5 (in), O (out)

## NAND7
designator U?
7-Input NAND Gate; FPGAVendor: Xilinx; Published: 12-Jan-2007; Publisher: Altium Limited; HelpURL: http://toolbox.xilinx.com/docsan/xilinx82/books/docs/s3asc/s3asc.pdf
pins: I0 (in), I1 (in), I2 (in), I3 (in), I4 (in), I5 (in), I6 (in), O (out)

## NAND8
designator U?
8-Input NAND Gate; FPGAVendor: Xilinx; Published: 12-Jan-2007; Publisher: Altium Limited; HelpURL: http://toolbox.xilinx.com/docsan/xilinx82/books/docs/s3asc/s3asc.pdf
pins: I0 (in), I1 (in), I2 (in), I3 (in), I4 (in), I5 (in), I6 (in), I7 (in), O (out)

## NAND9
designator U?
9-Input NAND Gate; FPGAVendor: Xilinx; Published: 12-Jan-2007; Publisher: Altium Limited; HelpURL: http://toolbox.xilinx.com/docsan/xilinx82/books/docs/s3asc/s3asc.pdf
pins: I0 (in), I1 (in), I2 (in), I3 (in), I4 (in), I5 (in), I6 (in), I7 (in), I8 (in), O (out)

## NAND12
designator U?
12-Input NAND Gate; FPGAVendor: Xilinx; Published: 12-Jan-2007; Publisher: Altium Limited; HelpURL: http://toolbox.xilinx.com/docsan/xilinx82/books/docs/s3asc/s3asc.pdf
pins: I0 (in), I1 (in), I2 (in), I3 (in), I4 (in), I5 (in), I6 (in), I7 (in), I8 (in), I9 (in), I10 (in), I11 (in), O (out)

## NAND16
designator U?
16-Input NAND Gate; FPGAVendor: Xilinx; Published: 12-Jan-2007; Publisher: Altium Limited; HelpURL: http://toolbox.xilinx.com/docsan/xilinx82/books/docs/s3asc/s3asc.pdf
pins: I0 (in), I1 (in), I2 (in), I3 (in), I4 (in), I5 (in), I6 (in), I7 (in), I8 (in), I9 (in), I10 (in), I11 (in), I12 (in), I13 (in), I14 (in), I15 (in), O (out)

## NOR2
designator U?
2-Input NOR Gate; FPGAVendor: Xilinx; Published: 12-Jan-2007; Publisher: Altium Limited; HelpURL: http://toolbox.xilinx.com/docsan/xilinx82/books/docs/s3asc/s3asc.pdf
pins: I0 (in), I1 (in), O (out)

## NOR2B1
designator U?
2-Input NOR Gate with One Inverted Input; FPGAVendor: Xilinx; Published: 12-Jan-2007; Publisher: Altium Limited; HelpURL: http://toolbox.xilinx.com/docsan/xilinx82/books/docs/s3asc/s3asc.pdf
pins: I0 (in), I1 (in), O (out)

## NOR2B2
designator U?
2-Input NOR Gate with Two Inverted Inputs; FPGAVendor: Xilinx; Published: 12-Jan-2007; Publisher: Altium Limited; HelpURL: http://toolbox.xilinx.com/docsan/xilinx82/books/docs/s3asc/s3asc.pdf
pins: I0 (in), I1 (in), O (out)

## NOR3
designator U?
3-Input NOR Gate; FPGAVendor: Xilinx; Published: 12-Jan-2007; Publisher: Altium Limited; HelpURL: http://toolbox.xilinx.com/docsan/xilinx82/books/docs/s3asc/s3asc.pdf
pins: I0 (in), I1 (in), I2 (in), O (out)

## NOR3B1
designator U?
3-Input NOR Gate with One Inverted Input; FPGAVendor: Xilinx; Published: 12-Jan-2007; Publisher: Altium Limited; HelpURL: http://toolbox.xilinx.com/docsan/xilinx82/books/docs/s3asc/s3asc.pdf
pins: I0 (in), I1 (in), I2 (in), O (out)

## NOR3B2
designator U?
3-Input NOR Gate with Two Inverted Inputs; FPGAVendor: Xilinx; Published: 12-Jan-2007; Publisher: Altium Limited; HelpURL: http://toolbox.xilinx.com/docsan/xilinx82/books/docs/s3asc/s3asc.pdf
pins: I0 (in), I1 (in), I2 (in), O (out)

## NOR3B3
designator U?
3-Input NOR Gate with Three Inverted Inputs; FPGAVendor: Xilinx; Published: 12-Jan-2007; Publisher: Altium Limited; HelpURL: http://toolbox.xilinx.com/docsan/xilinx82/books/docs/s3asc/s3asc.pdf
pins: I0 (in), I1 (in), I2 (in), O (out)

## NOR4
designator U?
4-Input NOR Gate; FPGAVendor: Xilinx; Published: 12-Jan-2007; Publisher: Altium Limited; HelpURL: http://toolbox.xilinx.com/docsan/xilinx82/books/docs/s3asc/s3asc.pdf
pins: I0 (in), I1 (in), I2 (in), I3 (in), O (out)

## NOR4B1
designator U?
4-Input NOR Gate with One Inverted Input; FPGAVendor: Xilinx; Published: 12-Jan-2007; Publisher: Altium Limited; HelpURL: http://toolbox.xilinx.com/docsan/xilinx82/books/docs/s3asc/s3asc.pdf
pins: I0 (in), I1 (in), I2 (in), I3 (in), O (out)

## NOR4B2
designator U?
4-Input NOR Gate with Two Inverted Inputs; FPGAVendor: Xilinx; Published: 12-Jan-2007; Publisher: Altium Limited; HelpURL: http://toolbox.xilinx.com/docsan/xilinx82/books/docs/s3asc/s3asc.pdf
pins: I0 (in), I1 (in), I2 (in), I3 (in), O (out)

## NOR4B3
designator U?
4-Input NOR Gate with Three Inverted Inputs; FPGAVendor: Xilinx; Published: 12-Jan-2007; Publisher: Altium Limited; HelpURL: http://toolbox.xilinx.com/docsan/xilinx82/books/docs/s3asc/s3asc.pdf
pins: I0 (in), I1 (in), I2 (in), I3 (in), O (out)

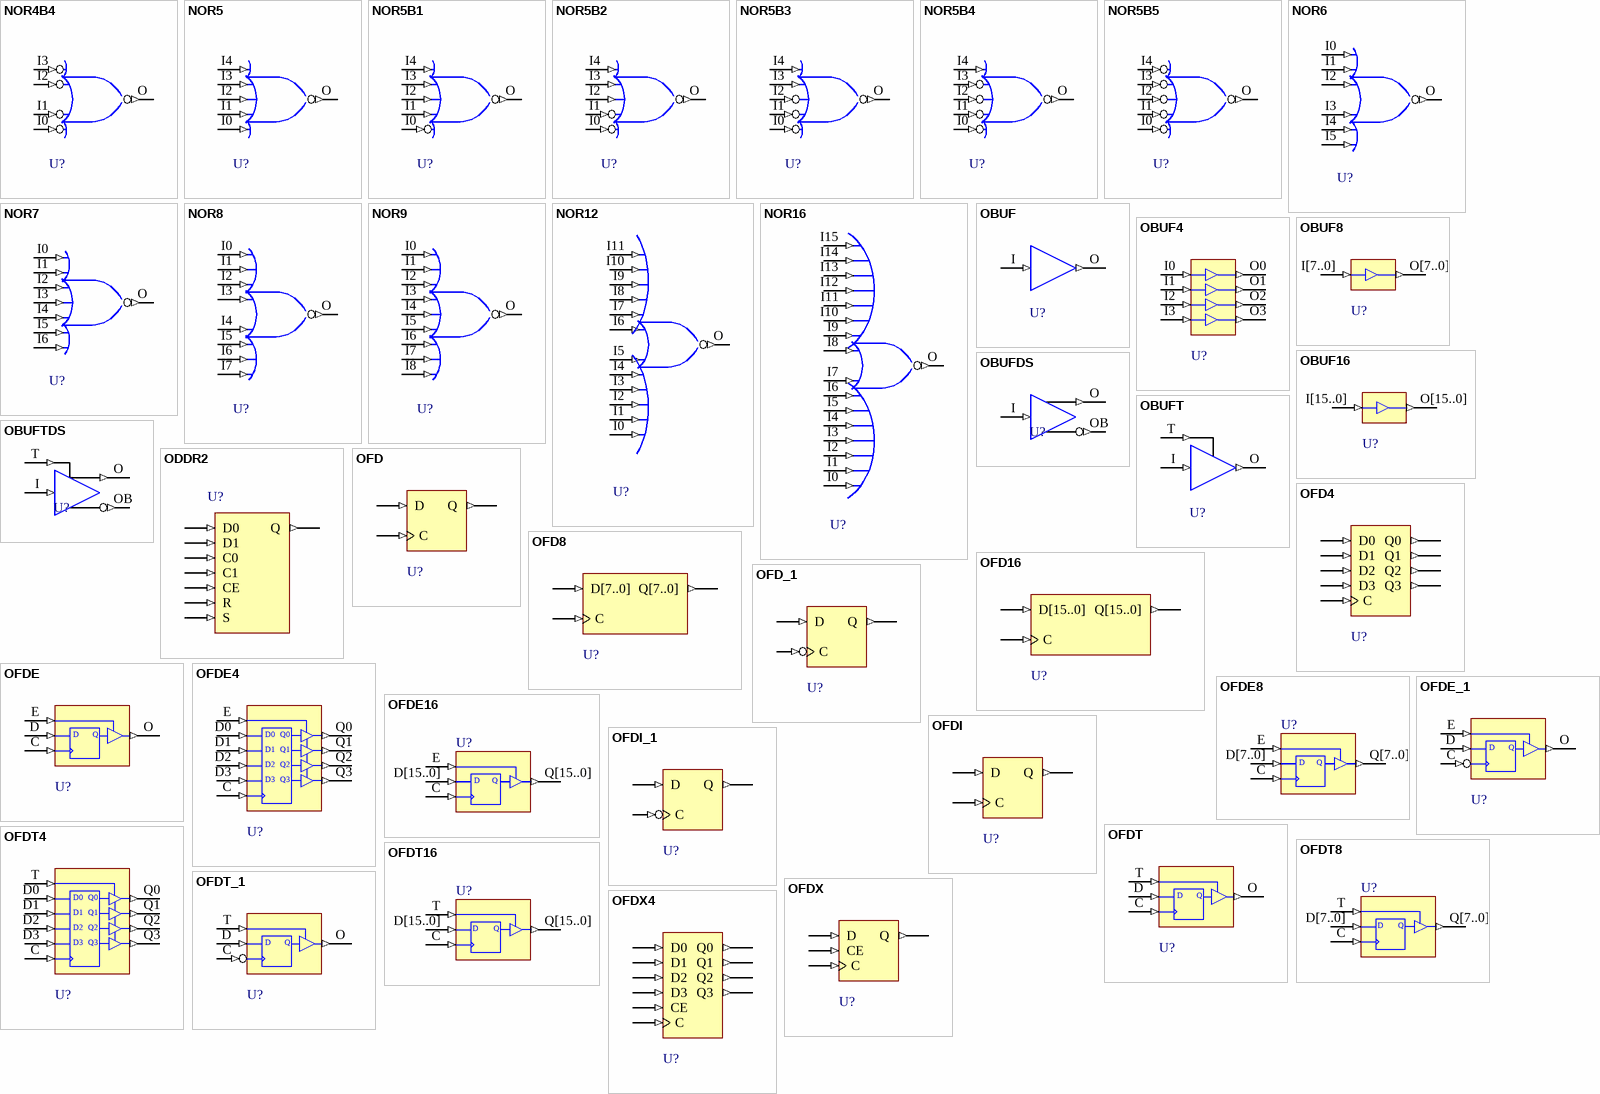
[diagram p7: symbols NOR4B4 to OFDX4]

## NOR4B4
designator U?
4-Input NOR Gate with Four Inverted Inputs; FPGAVendor: Xilinx; Published: 12-Jan-2007; Publisher: Altium Limited; HelpURL: http://toolbox.xilinx.com/docsan/xilinx82/books/docs/s3asc/s3asc.pdf
pins: I0 (in), I1 (in), I2 (in), I3 (in), O (out)

## NOR5
designator U?
5-Input NOR Gate; FPGAVendor: Xilinx; Published: 12-Jan-2007; Publisher: Altium Limited; HelpURL: http://toolbox.xilinx.com/docsan/xilinx82/books/docs/s3asc/s3asc.pdf
pins: I0 (in), I1 (in), I2 (in), I3 (in), I4 (in), O (out)

## NOR5B1
designator U?
5-Input NOR Gate with One Inverted Input; FPGAVendor: Xilinx; Published: 12-Jan-2007; Publisher: Altium Limited; HelpURL: http://toolbox.xilinx.com/docsan/xilinx82/books/docs/s3asc/s3asc.pdf
pins: I0 (in), I1 (in), I2 (in), I3 (in), I4 (in), O (out)

## NOR5B2
designator U?
5-Input NOR Gate with Two Inverted Inputs; FPGAVendor: Xilinx; Published: 12-Jan-2007; Publisher: Altium Limited; HelpURL: http://toolbox.xilinx.com/docsan/xilinx82/books/docs/s3asc/s3asc.pdf
pins: I0 (in), I1 (in), I2 (in), I3 (in), I4 (in), O (out)

## NOR5B3
designator U?
5-Input NOR Gate with Three Inverted Inputs; FPGAVendor: Xilinx; Published: 12-Jan-2007; Publisher: Altium Limited; HelpURL: http://toolbox.xilinx.com/docsan/xilinx82/books/docs/s3asc/s3asc.pdf
pins: I0 (in), I1 (in), I2 (in), I3 (in), I4 (in), O (out)

## NOR5B4
designator U?
5-Input NOR Gate with Four Inverted Inputs; FPGAVendor: Xilinx; Published: 12-Jan-2007; Publisher: Altium Limited; HelpURL: http://toolbox.xilinx.com/docsan/xilinx82/books/docs/s3asc/s3asc.pdf
pins: I0 (in), I1 (in), I2 (in), I3 (in), I4 (in), O (out)

## NOR5B5
designator U?
5-Input NOR Gate with Five Inverted Inputs; FPGAVendor: Xilinx; Published: 12-Jan-2007; Publisher: Altium Limited; HelpURL: http://toolbox.xilinx.com/docsan/xilinx82/books/docs/s3asc/s3asc.pdf
pins: I0 (in), I1 (in), I2 (in), I3 (in), I4 (in), O (out)

## NOR6
designator U?
6-Input NOR Gate; FPGAVendor: Xilinx; Published: 12-Jan-2007; Publisher: Altium Limited; HelpURL: http://toolbox.xilinx.com/docsan/xilinx82/books/docs/s3asc/s3asc.pdf
pins: I0 (in), I1 (in), I2 (in), I3 (in), I4 (in), I5 (in), O (out)

## NOR7
designator U?
7-Input NOR Gate; FPGAVendor: Xilinx; Published: 12-Jan-2007; Publisher: Altium Limited; HelpURL: http://toolbox.xilinx.com/docsan/xilinx82/books/docs/s3asc/s3asc.pdf
pins: I0 (in), I1 (in), I2 (in), I3 (in), I4 (in), I5 (in), I6 (in), O (out)

## NOR8
designator U?
8-Input NOR Gate; FPGAVendor: Xilinx; Published: 12-Jan-2007; Publisher: Altium Limited; HelpURL: http://toolbox.xilinx.com/docsan/xilinx82/books/docs/s3asc/s3asc.pdf
pins: I0 (in), I1 (in), I2 (in), I3 (in), I4 (in), I5 (in), I6 (in), I7 (in), O (out)

## NOR9
designator U?
9-Input NOR Gate; FPGAVendor: Xilinx; Published: 12-Jan-2007; Publisher: Altium Limited; HelpURL: http://toolbox.xilinx.com/docsan/xilinx82/books/docs/s3asc/s3asc.pdf
pins: I0 (in), I1 (in), I2 (in), I3 (in), I4 (in), I5 (in), I6 (in), I7 (in), I8 (in), O (out)

## NOR12
designator U?
12-Input NOR Gate; FPGAVendor: Xilinx; Published: 12-Jan-2007; Publisher: Altium Limited; HelpURL: http://toolbox.xilinx.com/docsan/xilinx82/books/docs/s3asc/s3asc.pdf
pins: I0 (in), I1 (in), I2 (in), I3 (in), I4 (in), I5 (in), I6 (in), I7 (in), I8 (in), I9 (in), I10 (in), I11 (in), O (out)

## NOR16
designator U?
16-Input NOR Gate; FPGAVendor: Xilinx; Published: 12-Jan-2007; Publisher: Altium Limited; HelpURL: http://toolbox.xilinx.com/docsan/xilinx82/books/docs/s3asc/s3asc.pdf
pins: I0 (in), I1 (in), I2 (in), I3 (in), I4 (in), I5 (in), I6 (in), I7 (in), I8 (in), I9 (in), I10 (in), I11 (in), I12 (in), I13 (in), I14 (in), I15 (in), O (out)

## OBUF
designator U?
Single-Output Buffer (using the LVTTL standard); FPGAVendor: Xilinx; Published: 12-Jan-2007; Publisher: Altium Limited; HelpURL: http://toolbox.xilinx.com/docsan/xilinx82/books/docs/s3asc/s3asc.pdf
pins: I (in), O (out)

## OBUF4
designator U?
Multiple-Output Buffers (using the LVTTL standard); FPGAVendor: Xilinx; Published: 12-Jan-2007; Publisher: Altium Limited; HelpURL: http://toolbox.xilinx.com/docsan/xilinx82/books/docs/s3asc/s3asc.pdf
pins: I0 (in), I1 (in), I2 (in), I3 (in), O0 (out), O1 (out), O2 (out), O3 (out)

## OBUF8
designator U?
Multiple-Output Buffers (using the LVTTL standard); FPGAVendor: Xilinx; Published: 12-Jan-2007; Publisher: Altium Limited; HelpURL: http://toolbox.xilinx.com/docsan/xilinx82/books/docs/s3asc/s3asc.pdf
pins: I[7..0] (in), O[7..0] (out)

## OBUF16
designator U?
Multiple-Output Buffers (using the LVTTL standard); FPGAVendor: Xilinx; Published: 12-Jan-2007; Publisher: Altium Limited; HelpURL: http://toolbox.xilinx.com/docsan/xilinx82/books/docs/s3asc/s3asc.pdf
pins: I[15..0] (in), O[15..0] (out)

## OBUFDS
designator U?
Differential Signaling Output Buffer with Selectable I/O Interface; FPGAVendor: Xilinx; Published: 12-Jan-2007; Publisher: Altium Limited; HelpURL: http://toolbox.xilinx.com/docsan/xilinx82/books/docs/s3asc/s3asc.pdf
pins: I (in), O (out), OB (out)

## OBUFT
designator U?
Single 3-State Output Buffer with Active-Low Output Enable; FPGAVendor: Xilinx; Published: 12-Jan-2007; Publisher: Altium Limited; HelpURL: http://toolbox.xilinx.com/docsan/xilinx82/books/docs/s3asc/s3asc.pdf
pins: I (in), O (out), T (in)

## OBUFTDS
designator U?
3-State Differential Signaling Output Buffer with Active Low Output Enable and Selectable I/O Interface; FPGAVendor: Xilinx; Published: 12-Jan-2007; Publisher: Altium Limited; HelpURL: http://toolbox.xilinx.com/docsan/xilinx82/books/docs/s3asc/s3asc.pdf
pins: I (in), O (out), OB (out), T (in)

## ODDR2
designator U?
Double Data Rate Output D Flip-Flop with Optional Data Alignment, Clock Enable and Programmable Synchronous or Asynchronous Set/Reset; FPGAVendor: Xilinx; Published: 12-Jan-2007; Publisher: Altium Limited; HelpURL: http://toolbox.xilinx.com/docsan/xilinx82/books/docs/s3asc/s3asc.pdf
pins: C0 (in), C1 (in), CE (in), D0 (in), D1 (in), Q (out), R (in), S (in)

## OFD
designator U?
Single-Output D Flip-Flop; FPGAVendor: Xilinx; Published: 12-Jan-2007; Publisher: Altium Limited; HelpURL: http://toolbox.xilinx.com/docsan/xilinx82/books/docs/s3asc/s3asc.pdf
pins: C (in), D (in), Q (out)

## OFD4
designator U?
Multiple-Output D Flip-Flop; FPGAVendor: Xilinx; Published: 12-Jan-2007; Publisher: Altium Limited; HelpURL: http://toolbox.xilinx.com/docsan/xilinx82/books/docs/s3asc/s3asc.pdf
pins: C (in), D0 (in), D1 (in), D2 (in), D3 (in), Q0 (out), Q1 (out), Q2 (out), Q3 (out)

## OFD8
designator U?
Multiple-Output D Flip-Flop; FPGAVendor: Xilinx; Published: 12-Jan-2007; Publisher: Altium Limited; HelpURL: http://toolbox.xilinx.com/docsan/xilinx82/books/docs/s3asc/s3asc.pdf
pins: C (in), D[7..0] (in), Q[7..0] (out)

## OFD16
designator U?
Multiple-Output D Flip-Flop; FPGAVendor: Xilinx; Published: 12-Jan-2007; Publisher: Altium Limited; HelpURL: http://toolbox.xilinx.com/docsan/xilinx82/books/docs/s3asc/s3asc.pdf
pins: C (in), D[15..0] (in), Q[15..0] (out)

## OFD_1
designator U?
Output D Flip-Flop with Inverted Clock; FPGAVendor: Xilinx; Published: 12-Jan-2007; Publisher: Altium Limited; HelpURL: http://toolbox.xilinx.com/docsan/xilinx82/books/docs/s3asc/s3asc.pdf
pins: C (in), D (in), Q (out)

## OFDE
designator U?
D Flip-Flop with Active-High Enable Output Buffer; FPGAVendor: Xilinx; Published: 12-Jan-2007; Publisher: Altium Limited; HelpURL: http://toolbox.xilinx.com/docsan/xilinx82/books/docs/s3asc/s3asc.pdf
pins: C (in), D (in), E (in), O (out)
text: Q

## OFDE4
designator U?
D Flip-Flops with Active-High Enable Output Buffers; FPGAVendor: Xilinx; Published: 12-Jan-2007; Publisher: Altium Limited; HelpURL: http://toolbox.xilinx.com/docsan/xilinx82/books/docs/s3asc/s3asc.pdf
pins: C (in), D0 (in), D1 (in), D2 (in), D3 (in), E (in), Q0 (out), Q1 (out), Q2 (out), Q3 (out)

## OFDE8
designator U?
D Flip-Flops with Active-High Enable Output Buffers; FPGAVendor: Xilinx; Published: 12-Jan-2007; Publisher: Altium Limited; HelpURL: http://toolbox.xilinx.com/docsan/xilinx82/books/docs/s3asc/s3asc.pdf
pins: C (in), D[7..0] (in), E (in), Q[7..0] (out)
text: D; Q

## OFDE16
designator U?
D Flip-Flops with Active-High Enable Output Buffers; FPGAVendor: Xilinx; Published: 12-Jan-2007; Publisher: Altium Limited; HelpURL: http://toolbox.xilinx.com/docsan/xilinx82/books/docs/s3asc/s3asc.pdf
pins: C (in), D[15..0] (in), E (in), Q[15..0] (out)
text: D; Q

## OFDE_1
designator U?
D Flip-Flop with Active-High Enable Output Buffer and Inverted Clock; FPGAVendor: Xilinx; Published: 12-Jan-2007; Publisher: Altium Limited; HelpURL: http://toolbox.xilinx.com/docsan/xilinx82/books/docs/s3asc/s3asc.pdf
pins: C (in), D (in), E (in), O (out)
text: Q

## OFDI
designator U?
Output D Flip-Flop (Asynchronous Preset); FPGAVendor: Xilinx; Published: 12-Jan-2007; Publisher: Altium Limited; HelpURL: http://toolbox.xilinx.com/docsan/xilinx82/books/docs/s3asc/s3asc.pdf
pins: C (in), D (in), Q (out)

## OFDI_1
designator U?
Output D Flip-Flop with Inverted Clock (Asynchronous Preset); FPGAVendor: Xilinx; Published: 12-Jan-2007; Publisher: Altium Limited; HelpURL: http://toolbox.xilinx.com/docsan/xilinx82/books/docs/s3asc/s3asc.pdf
pins: C (in), D (in), Q (out)

## OFDT
designator U?
Single D Flip-Flop with Active-Low 3-State Output Enable Buffer; FPGAVendor: Xilinx; Published: 12-Jan-2007; Publisher: Altium Limited; HelpURL: http://toolbox.xilinx.com/docsan/xilinx82/books/docs/s3asc/s3asc.pdf
pins: C (in), D (in), O (out), T (in)
text: Q

## OFDT4
designator U?
Multiple D Flip-Flops with Active-Low 3-State Output Enable Buffers; FPGAVendor: Xilinx; Published: 12-Jan-2007; Publisher: Altium Limited; HelpURL: http://toolbox.xilinx.com/docsan/xilinx82/books/docs/s3asc/s3asc.pdf
pins: C (in), D0 (in), D1 (in), D2 (in), D3 (in), Q0 (out), Q1 (out), Q2 (out), Q3 (out), T (in)

## OFDT8
designator U?
Multiple D Flip-Flops with Active-Low 3-State Output Enable Buffers; FPGAVendor: Xilinx; Published: 12-Jan-2007; Publisher: Altium Limited; HelpURL: http://toolbox.xilinx.com/docsan/xilinx82/books/docs/s3asc/s3asc.pdf
pins: C (in), D[7..0] (in), Q[7..0] (out), T (in)
text: D; Q

## OFDT16
designator U?
Multiple D Flip-Flops with Active-Low 3-State Output Enable Buffers; FPGAVendor: Xilinx; Published: 12-Jan-2007; Publisher: Altium Limited; HelpURL: http://toolbox.xilinx.com/docsan/xilinx82/books/docs/s3asc/s3asc.pdf
pins: C (in), D[15..0] (in), Q[15..0] (out), T (in)
text: D; Q

## OFDT_1
designator U?
D Flip-Flop with Active-Low 3-State Output Buffer and Inverted Clock; FPGAVendor: Xilinx; Published: 12-Jan-2007; Publisher: Altium Limited; HelpURL: http://toolbox.xilinx.com/docsan/xilinx82/books/docs/s3asc/s3asc.pdf
pins: C (in), D (in), O (out), T (in)
text: Q

## OFDX
designator U?
Single-Output D Flip-Flop with Clock Enable; FPGAVendor: Xilinx; Published: 12-Jan-2007; Publisher: Altium Limited; HelpURL: http://toolbox.xilinx.com/docsan/xilinx82/books/docs/s3asc/s3asc.pdf
pins: C (in), CE (in), D (in), Q (out)

## OFDX4
designator U?
Multiple-Output D Flip-Flops with Clock Enable; FPGAVendor: Xilinx; Published: 12-Jan-2007; Publisher: Altium Limited; HelpURL: http://toolbox.xilinx.com/docsan/xilinx82/books/docs/s3asc/s3asc.pdf
pins: C (in), CE (in), D0 (in), D1 (in), D2 (in), D3 (in), Q0 (out), Q1 (out), Q2 (out), Q3 (out)

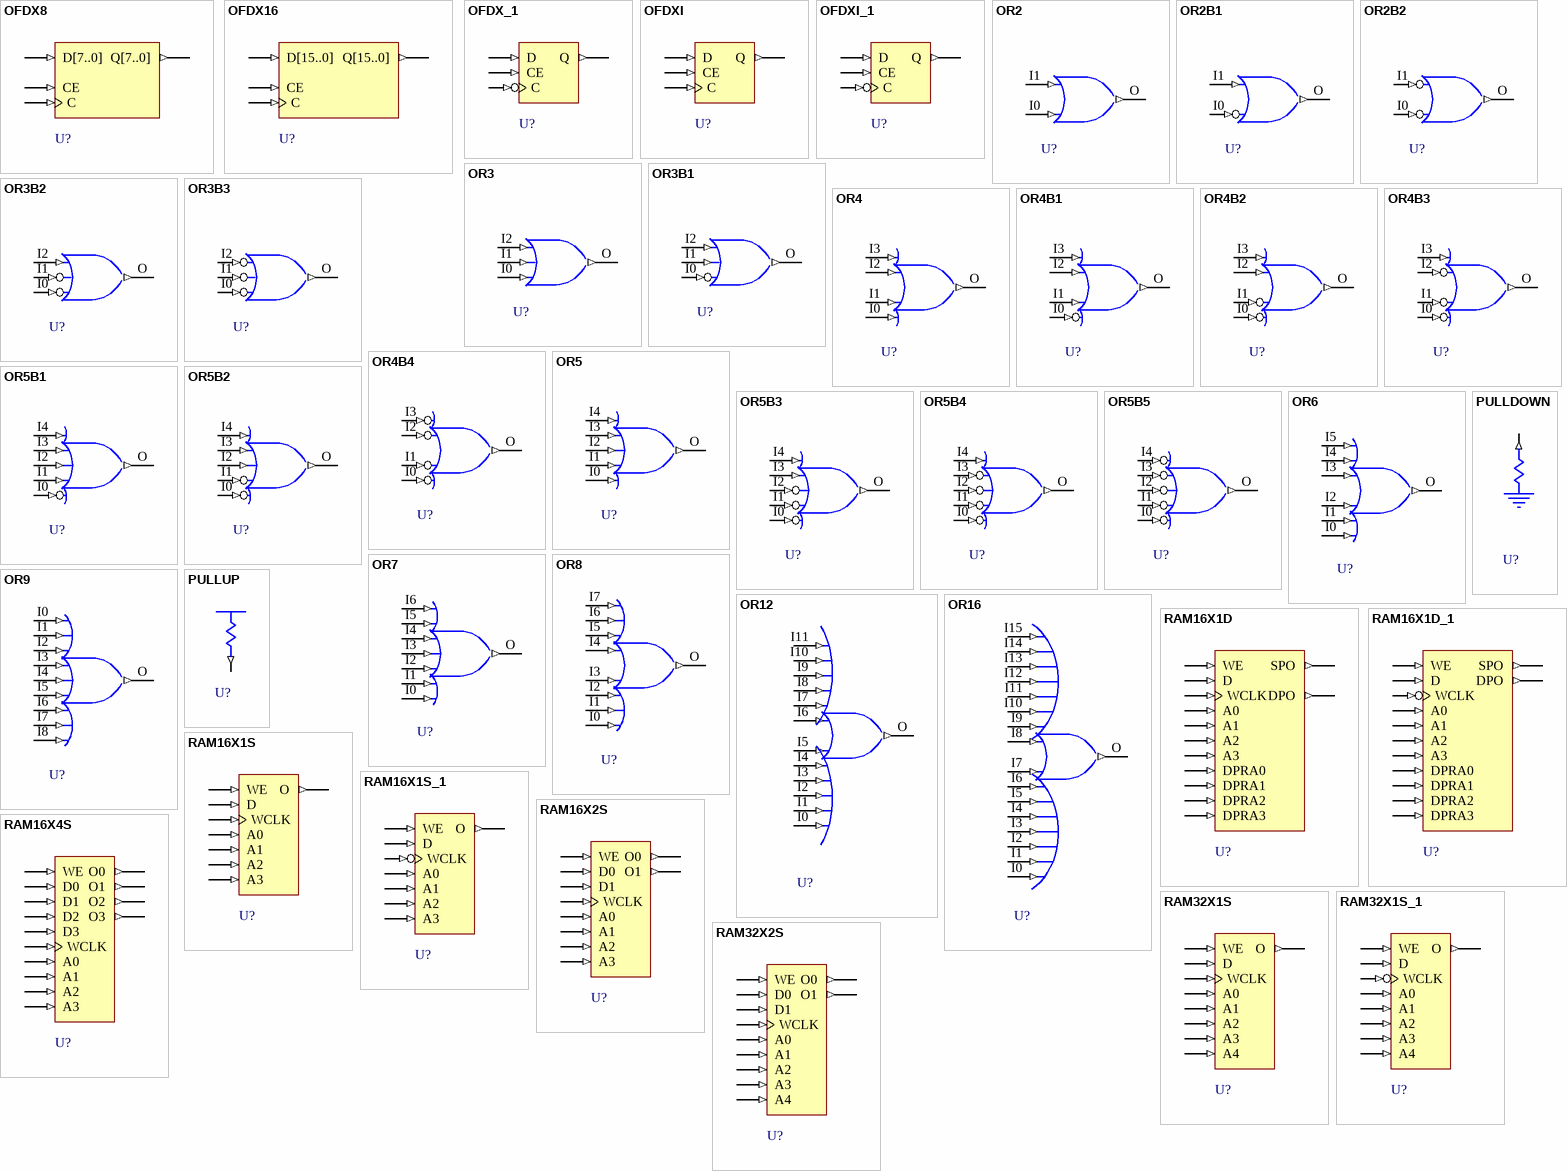
[diagram p8: symbols OFDX8 to RAM32X2S]

## OFDX8
designator U?
Multiple-Output D Flip-Flops with Clock Enable; FPGAVendor: Xilinx; Published: 12-Jan-2007; Publisher: Altium Limited; HelpURL: http://toolbox.xilinx.com/docsan/xilinx82/books/docs/s3asc/s3asc.pdf
pins: C (in), CE (in), D[7..0] (in), Q[7..0] (out)

## OFDX16
designator U?
Multiple-Output D Flip-Flops with Clock Enable; FPGAVendor: Xilinx; Published: 12-Jan-2007; Publisher: Altium Limited; HelpURL: http://toolbox.xilinx.com/docsan/xilinx82/books/docs/s3asc/s3asc.pdf
pins: C (in), CE (in), D[15..0] (in), Q[15..0] (out)

## OFDX_1
designator U?
Output D Flip-Flop with Inverted Clock and Clock Enable; FPGAVendor: Xilinx; Published: 12-Jan-2007; Publisher: Altium Limited; HelpURL: http://toolbox.xilinx.com/docsan/xilinx82/books/docs/s3asc/s3asc.pdf
pins: C (in), CE (in), D (in), Q (out)

## OFDXI
designator U?
Output D Flip-Flop with Clock Enable (Asynchronous Preset); FPGAVendor: Xilinx; Published: 12-Jan-2007; Publisher: Altium Limited; HelpURL: http://toolbox.xilinx.com/docsan/xilinx82/books/docs/s3asc/s3asc.pdf
pins: C (in), CE (in), D (in), Q (out)

## OFDXI_1
designator U?
Output D Flip-Flop with Inverted Clock and Clock Enable (Asynchronous Preset); FPGAVendor: Xilinx; Published: 12-Jan-2007; Publisher: Altium Limited; HelpURL: http://toolbox.xilinx.com/docsan/xilinx82/books/docs/s3asc/s3asc.pdf
pins: C (in), CE (in), D (in), Q (out)

## OR2
designator U?
2-Input OR Gate; FPGAVendor: Xilinx; Published: 12-Jan-2007; Publisher: Altium Limited; HelpURL: http://toolbox.xilinx.com/docsan/xilinx82/books/docs/s3asc/s3asc.pdf
pins: I0 (in), I1 (in), O (out)

## OR2B1
designator U?
2-Input OR Gate with One Inverted Input; FPGAVendor: Xilinx; Published: 12-Jan-2007; Publisher: Altium Limited; HelpURL: http://toolbox.xilinx.com/docsan/xilinx82/books/docs/s3asc/s3asc.pdf
pins: I0 (in), I1 (in), O (out)

## OR2B2
designator U?
2-Input OR Gate with Two Inverted Inputs; FPGAVendor: Xilinx; Published: 12-Jan-2007; Publisher: Altium Limited; HelpURL: http://toolbox.xilinx.com/docsan/xilinx82/books/docs/s3asc/s3asc.pdf
pins: I0 (in), I1 (in), O (out)

## OR3
designator U?
3-Input OR Gate; FPGAVendor: Xilinx; Published: 12-Jan-2007; Publisher: Altium Limited; HelpURL: http://toolbox.xilinx.com/docsan/xilinx82/books/docs/s3asc/s3asc.pdf
pins: I0 (in), I1 (in), I2 (in), O (out)

## OR3B1
designator U?
3-Input OR Gate with One Inverted Input; FPGAVendor: Xilinx; Published: 12-Jan-2007; Publisher: Altium Limited; HelpURL: http://toolbox.xilinx.com/docsan/xilinx82/books/docs/s3asc/s3asc.pdf
pins: I0 (in), I1 (in), I2 (in), O (out)

## OR3B2
designator U?
3-Input OR Gate with Two Inverted Inputs; FPGAVendor: Xilinx; Published: 12-Jan-2007; Publisher: Altium Limited; HelpURL: http://toolbox.xilinx.com/docsan/xilinx82/books/docs/s3asc/s3asc.pdf
pins: I0 (in), I1 (in), I2 (in), O (out)

## OR3B3
designator U?
3-Input OR Gate with Three Inverted Inputs; FPGAVendor: Xilinx; Published: 12-Jan-2007; Publisher: Altium Limited; HelpURL: http://toolbox.xilinx.com/docsan/xilinx82/books/docs/s3asc/s3asc.pdf
pins: I0 (in), I1 (in), I2 (in), O (out)

## OR4
designator U?
4-Input OR Gate; FPGAVendor: Xilinx; Published: 12-Jan-2007; Publisher: Altium Limited; HelpURL: http://toolbox.xilinx.com/docsan/xilinx82/books/docs/s3asc/s3asc.pdf
pins: I0 (in), I1 (in), I2 (in), I3 (in), O (out)

## OR4B1
designator U?
4-Input OR Gate with One Inverted Input; FPGAVendor: Xilinx; Published: 12-Jan-2007; Publisher: Altium Limited; HelpURL: http://toolbox.xilinx.com/docsan/xilinx82/books/docs/s3asc/s3asc.pdf
pins: I0 (in), I1 (in), I2 (in), I3 (in), O (out)

## OR4B2
designator U?
4-Input OR Gate with Two Inverted Inputs; FPGAVendor: Xilinx; Published: 12-Jan-2007; Publisher: Altium Limited; HelpURL: http://toolbox.xilinx.com/docsan/xilinx82/books/docs/s3asc/s3asc.pdf
pins: I0 (in), I1 (in), I2 (in), I3 (in), O (out)

## OR4B3
designator U?
4-Input OR Gate with Three Inverted Inputs; FPGAVendor: Xilinx; Published: 12-Jan-2007; Publisher: Altium Limited; HelpURL: http://toolbox.xilinx.com/docsan/xilinx82/books/docs/s3asc/s3asc.pdf
pins: I0 (in), I1 (in), I2 (in), I3 (in), O (out)

## OR4B4
designator U?
4-Input OR Gate with Four Inverted Inputs; FPGAVendor: Xilinx; Published: 12-Jan-2007; Publisher: Altium Limited; HelpURL: http://toolbox.xilinx.com/docsan/xilinx82/books/docs/s3asc/s3asc.pdf
pins: I0 (in), I1 (in), I2 (in), I3 (in), O (out)

## OR5
designator U?
5-Input OR Gate; FPGAVendor: Xilinx; Published: 12-Jan-2007; Publisher: Altium Limited; HelpURL: http://toolbox.xilinx.com/docsan/xilinx82/books/docs/s3asc/s3asc.pdf
pins: I0 (in), I1 (in), I2 (in), I3 (in), I4 (in), O (out)

## OR5B1
designator U?
5-Input OR Gate with One Inverted Input; FPGAVendor: Xilinx; Published: 12-Jan-2007; Publisher: Altium Limited; HelpURL: http://toolbox.xilinx.com/docsan/xilinx82/books/docs/s3asc/s3asc.pdf
pins: I0 (in), I1 (in), I2 (in), I3 (in), I4 (in), O (out)

## OR5B2
designator U?
5-Input OR Gate with Two Inverted Inputs; FPGAVendor: Xilinx; Published: 12-Jan-2007; Publisher: Altium Limited; HelpURL: http://toolbox.xilinx.com/docsan/xilinx82/books/docs/s3asc/s3asc.pdf
pins: I0 (in), I1 (in), I2 (in), I3 (in), I4 (in), O (out)

## OR5B3
designator U?
5-Input OR Gate with Three Inverted Inputs; FPGAVendor: Xilinx; Published: 12-Jan-2007; Publisher: Altium Limited; HelpURL: http://toolbox.xilinx.com/docsan/xilinx82/books/docs/s3asc/s3asc.pdf
pins: I0 (in), I1 (in), I2 (in), I3 (in), I4 (in), O (out)

## OR5B4
designator U?
5-Input OR Gate with Four Inverted Inputs; FPGAVendor: Xilinx; Published: 12-Jan-2007; Publisher: Altium Limited; HelpURL: http://toolbox.xilinx.com/docsan/xilinx82/books/docs/s3asc/s3asc.pdf
pins: I0 (in), I1 (in), I2 (in), I3 (in), I4 (in), O (out)

## OR5B5
designator U?
5-Input OR Gate with Five Inverted Inputs; FPGAVendor: Xilinx; Published: 12-Jan-2007; Publisher: Altium Limited; HelpURL: http://toolbox.xilinx.com/docsan/xilinx82/books/docs/s3asc/s3asc.pdf
pins: I0 (in), I1 (in), I2 (in), I3 (in), I4 (in), O (out)

## OR6
designator U?
6-Input OR Gate; FPGAVendor: Xilinx; Published: 12-Jan-2007; Publisher: Altium Limited; HelpURL: http://toolbox.xilinx.com/docsan/xilinx82/books/docs/s3asc/s3asc.pdf
pins: I0 (in), I1 (in), I2 (in), I3 (in), I4 (in), I5 (in), O (out)

## OR7
designator U?
7-Input OR Gate; FPGAVendor: Xilinx; Published: 12-Jan-2007; Publisher: Altium Limited; HelpURL: http://toolbox.xilinx.com/docsan/xilinx82/books/docs/s3asc/s3asc.pdf
pins: I0 (in), I1 (in), I2 (in), I3 (in), I4 (in), I5 (in), I6 (in), O (out)

## OR8
designator U?
8-Input OR Gate; FPGAVendor: Xilinx; Published: 12-Jan-2007; Publisher: Altium Limited; HelpURL: http://toolbox.xilinx.com/docsan/xilinx82/books/docs/s3asc/s3asc.pdf
pins: I0 (in), I1 (in), I2 (in), I3 (in), I4 (in), I5 (in), I6 (in), I7 (in), O (out)

## OR9
designator U?
9-Input OR Gate; FPGAVendor: Xilinx; Published: 12-Jan-2007; Publisher: Altium Limited; HelpURL: http://toolbox.xilinx.com/docsan/xilinx82/books/docs/s3asc/s3asc.pdf
pins: I0 (in), I1 (in), I2 (in), I3 (in), I4 (in), I5 (in), I6 (in), I7 (in), I8 (in), O (out)

## OR12
designator U?
12-Input OR Gate; FPGAVendor: Xilinx; Published: 12-Jan-2007; Publisher: Altium Limited; HelpURL: http://toolbox.xilinx.com/docsan/xilinx82/books/docs/s3asc/s3asc.pdf
pins: I0 (in), I1 (in), I2 (in), I3 (in), I4 (in), I5 (in), I6 (in), I7 (in), I8 (in), I9 (in), I10 (in), I11 (in), O (out)

## OR16
designator U?
16-Input OR Gate; FPGAVendor: Xilinx; Published: 12-Jan-2007; Publisher: Altium Limited; HelpURL: http://toolbox.xilinx.com/docsan/xilinx82/books/docs/s3asc/s3asc.pdf
pins: I0 (in), I1 (in), I2 (in), I3 (in), I4 (in), I5 (in), I6 (in), I7 (in), I8 (in), I9 (in), I10 (in), I11 (in), I12 (in), I13 (in), I14 (in), I15 (in), O (out)

## PULLDOWN
designator U?
Resistor to GND for Input Pads; FPGAVendor: Xilinx; Published: 12-Jan-2007; Publisher: Altium Limited; HelpURL: http://toolbox.xilinx.com/docsan/xilinx82/books/docs/s3asc/s3asc.pdf
pins: O (out)

## PULLUP
designator U?
Resistor to VCC for Input PADs, Open-Drain, and 3-State Outputs; FPGAVendor: Xilinx; Published: 12-Jan-2007; Publisher: Altium Limited; HelpURL: http://toolbox.xilinx.com/docsan/xilinx82/books/docs/s3asc/s3asc.pdf
pins: O (out)